# EAGLE library part SWD (library LightController)
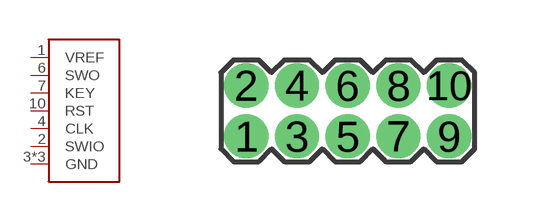
[diagram p1: symbol with the pads of 2X5_0.05"_TH_NS; footprint 2X5_0.05"_TH_NS]

Designator prefix P

## SWD  [2X5_0.05"_TH_NS]
1  VREF
2  SWIO
3  GND
4  CLK
5  GND
6  SWO
7  KEY
9  GND
10  RST

## Footprint 2X5_0.05"_TH_NS (pad centres in mm)
2x5 0.05" pitch, through-hole, unshrouded header from FCI, product number 20021111-00010T4LF http://www.digikey.com/product-detail/en/20021111-00010T4LF/609-3712-ND/2209072
drill 0.6 pad 0.95: 1 -2.54,-0.635; 2 -2.54,0.635; 3 -1.27,-0.635; 4 -1.27,0.635; 5 0,-0.635; 6 0,0.635; 7 1.27,-0.635; 8 1.27,0.635; 9 2.54,-0.635; 10 2.54,0.635